# EAGLE library part 6HJ5 (library wheat)
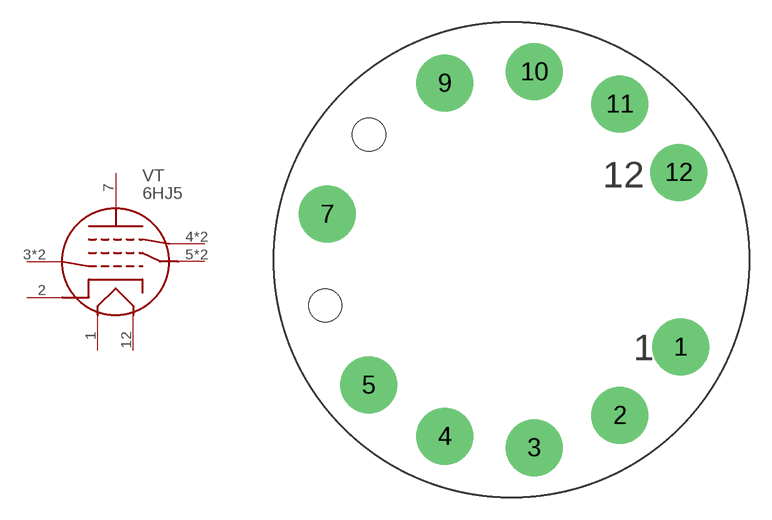
[diagram p235: symbol with the pads of COMPACTRON_BOT_P7HV; footprint COMPACTRON_BOT_P7HV]

Designator prefix VT

## 6HJ5  [COMPACTRON_BOT_P7HV]
1  F1  pas
2  K  pas
3  G1  pas
4  G3  pas
5  G2  pas
7  A  pas
9  G2  pas
10  G3  pas
11  G1  pas
12  F2  pas

## Footprint COMPACTRON_BOT_P7HV (pad centres in mm)
drill 2.184 pad 3.81: 1 11.303,-5.842; 2 7.239,-10.414; 3 1.524,-12.573; 4 -4.445,-11.811; 5 -9.525,-8.382; 7 -12.319,3.048; 9 -4.445,11.811; 10 1.524,12.573; 11 7.239,10.414; 12 11.176,5.842
hole 2.21 at -12.446,-3.048
hole 2.21 at -9.525,8.382